# EAGLE library part PIC17C4*?-40 (library microchip)
MICROCONTROLLER EPROM-based
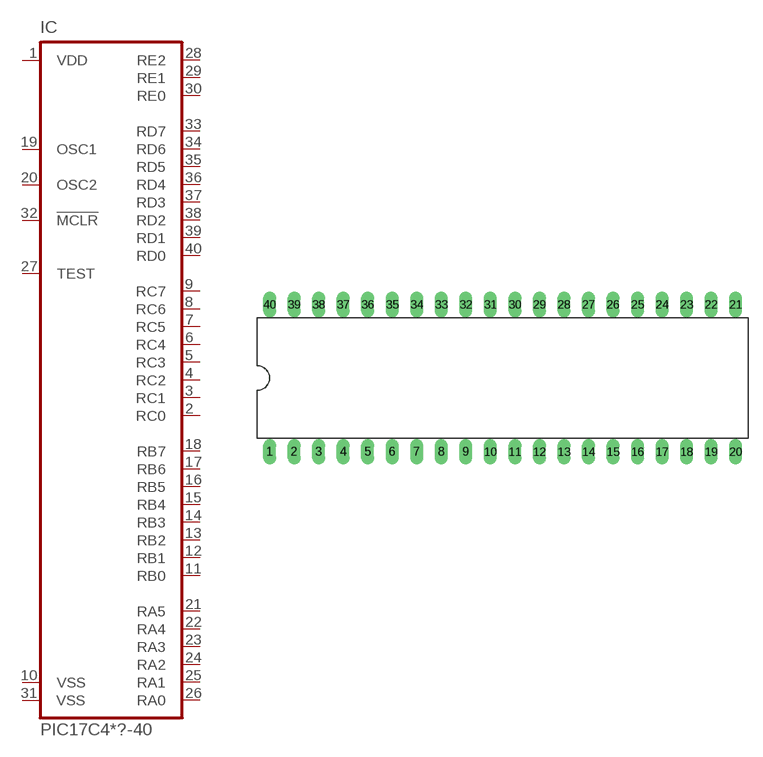
[diagram p107: symbol with the pads of DIL40; footprint DIL40]

Designator prefix IC

## PIC17C42P-40 (MF: MICROCHIP; MPN: PIC17C42A-16/P; OC_FARNELL: 1196768; OC_NEWARK: 23C5768), PIC17C43P-40 (MF: MICROCHIP; MPN: PIC17C43-16/P; OC_FARNELL: 1084356; OC_NEWARK: 63K6089), PIC17C44P-40 (MF: MICROCHIP; MPN: PIC17C44-33/P; OC_FARNELL: 1084221; OC_NEWARK: 23C5919)  [DIL40]
1  VDD  pwr
2  RC0  out
3  RC1  out
4  RC2  out
5  RC3  out
6  RC4  out
7  RC5  out
8  RC6  out
9  RC7  out
10  VSS  pwr
11  RB0
12  RB1
13  RB2
14  RB3
15  RB4
16  RB5
17  RB6
18  RB7
19  OSC1  in
20  OSC2  out
21  RA5
22  RA4
23  RA3
24  RA2
25  RA1
26  RA0
27  TEST  in
28  RE2
29  RE1
30  RE0
31  VSS  pwr
32  !MCLR  in
33  RD7
34  RD6
35  RD5
36  RD4
37  RD3
38  RD2
39  RD1
40  RD0

## Footprint DIL40 (pad centres in mm)
Dual In Line package type P
drill 0.813 long: 1 -24.13,-7.62; 2 -21.59,-7.62; 3 -19.05,-7.62; 4 -16.51,-7.62; 5 -13.97,-7.62; 6 -11.43,-7.62; 7 -8.89,-7.62; 8 -6.35,-7.62; 9 -3.81,-7.62; 10 -1.27,-7.62; 11 1.27,-7.62; 12 3.81,-7.62; 13 6.35,-7.62; 14 8.89,-7.62; 15 11.43,-7.62; 16 13.97,-7.62; 17 16.51,-7.62; 18 19.05,-7.62; 19 21.59,-7.62; 20 24.13,-7.62; 21 24.13,7.62; 22 21.59,7.62; 23 19.05,7.62; 24 16.51,7.62; 25 13.97,7.62; 26 11.43,7.62; 27 8.89,7.62; 28 6.35,7.62; 29 3.81,7.62; 30 1.27,7.62; 31 -1.27,7.62; 32 -3.81,7.62; 33 -6.35,7.62; 34 -8.89,7.62; 35 -11.43,7.62; 36 -13.97,7.62; 37 -16.51,7.62; 38 -19.05,7.62; 39 -21.59,7.62; 40 -24.13,7.62